# Altium schematic symbol library USB Type B Right Angle.SchLib: 1 symbol
Pins are listed as number, name and electrical type; pins without a type are passive.

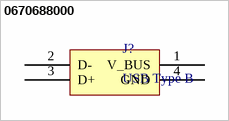
[diagram p0: symbol 0670688000]

## 0670688000
designator J?, comment USB Type B
footprint 0670688000 (USB Type B connector)
pins: 1 V_BUS, 2 D-, 3 D+, 4 GND